# EAGLE library part APW7301 (library _mtvl.power)
APW7301 3A 24V 340kHz synchronous Buck Converter Anpek Electronics Corporation http://www.anpec.com.tw/ https://datasheet.lcsc.com/szlcsc/1810010110_Anpec-Elec-APW7301KAI-TRG_C115136.pdf
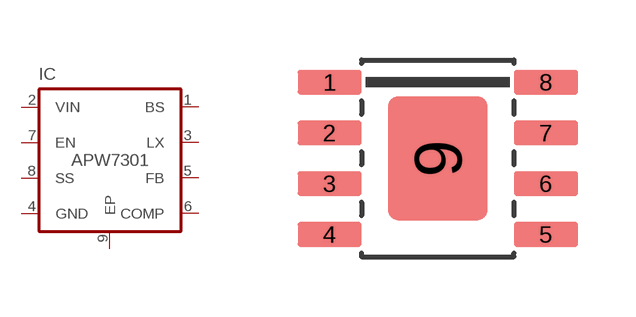
[diagram p12: symbol with the pads of SOIC8N; footprint SOIC8N]

Designator prefix IC

## APW7301  [SOIC8N]
1  BS
2  VIN
3  LX
4  GND
5  FB
6  COMP
7  EN
8  SS
9  EP

## Footprint SOIC8N (pad centres in mm)
Small Outline IC with Power Pad
smd 1.6 x 0.61: 1 -2.705,1.905; 2 -2.705,0.635; 3 -2.705,-0.635; 4 -2.705,-1.905; 5 2.705,-1.905; 6 2.705,-0.635; 7 2.705,0.635; 8 2.705,1.905
smd 2.49 x 3.1: 9 0,0